# Altium footprint library Optoelectronics.PcbLib: 17 footprints (part 2 of 2)
Each footprint in its own frame and in the unit in brackets; x right, y up, seen from the top. Pads: shape width x height; smd on the part's side, far side on the other; paste and mask are expansions set on the pad; w line width, h text height; cw(c..) or ccw(c..) is an arc to the next point about the centre after c.
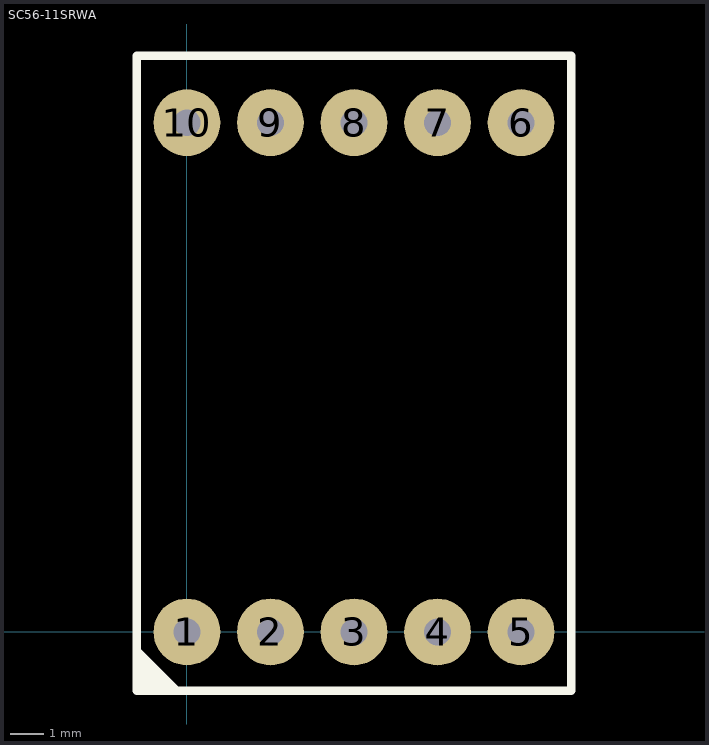
[diagram p1: the footprint, top view; thin cyan lines are the x and y axes]

## SC56-11SRWA [mm]
pads (10):
  round 2 hole 0.8: 1(0,0) 2(2.5,0) 3(5,0) 4(7.5,0) 5(10,0) 6(10,15.24) 7(7.5,15.24) 8(5,15.24) 9(2.5,15.24) 10(0,15.24)
Top Overlay:
  region: -1.5,-1.76 -1.5,-0.4 -0.097,-1.803
  lines w0.254: -1.5,-1.76 -1.5,17.24 11.5,17.24 11.5,-1.76 -1.5,-1.76
3D body "King Bright SA-SC56-11.STEP": height 8.5, standoff -3.5, extent -1.35,-1.785 11.35,17.265